# Altium schematic symbol library spacemonochrome-WR_TBL.SchLib: 1696 symbols (part 19 of 28)
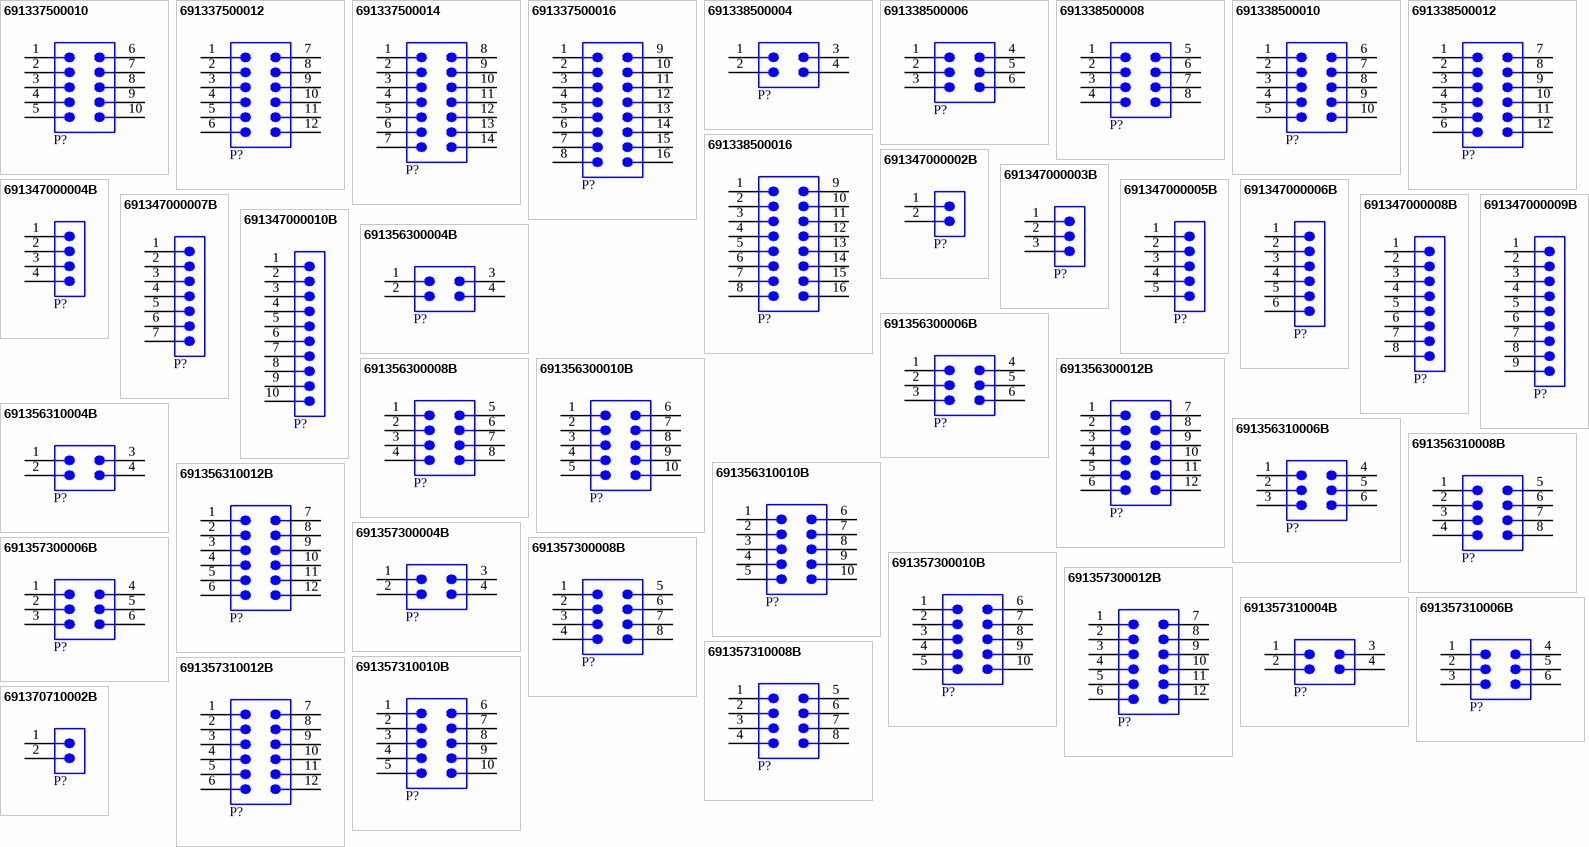
[diagram p60: symbols 691337500010 to 691370710002B]

## 691357310006B
designator P?  (value not drawn)
WR-TBL Series 357B Double Level Horizontal PCB Header with Flanges, THT, pitch 3.81mm, 6p; Manufacturer: Wurth Elektronik; Modularity: No; Rated Current: 10A; Working Voltage: 300V; ComponentLink1Description: Website Link; ComponentLink1URL: https://www.we-online.com/redexpert/article/691357310006B?ad; ComponentLink2Description: Datasheet Link; ComponentLink2URL: https://www.we-online.com/redexpert/spec/691357310006B?ad; Manufacturer Part Number: 691357310006B; Category: Terminal Blocks; Match Code: WR-TBL; Mount: Through Hole; Operating Temperature Max: 105°C; Operating Temperature Min: -40°C; Packaging: Box; Application: Pluggable; Number of Pins: 6; Number of Rows: 2; Orientation: Double Level Horizontal; Pitch: 3.81mm
footprint 691357310006B
pins: 1, 2, 3, 4, 5, 6

## 691357310008B
designator P?  (value not drawn)
WR-TBL Series 357B Double Level Horizontal PCB Header with Flanges, THT, pitch 3.81mm, 8p; Manufacturer: Wurth Elektronik; Modularity: No; Rated Current: 10A; Working Voltage: 300V; ComponentLink1Description: Website Link; ComponentLink1URL: https://www.we-online.com/redexpert/article/691357310008B?ad; ComponentLink2Description: Datasheet Link; ComponentLink2URL: https://www.we-online.com/redexpert/spec/691357310008B?ad; Manufacturer Part Number: 691357310008B; Category: Terminal Blocks; Match Code: WR-TBL; Mount: Through Hole; Operating Temperature Max: 105°C; Operating Temperature Min: -40°C; Packaging: Box; Application: Pluggable; Number of Pins: 8; Number of Rows: 2; Orientation: Double Level Horizontal; Pitch: 3.81mm
footprint 691357310008B
pins: 1, 2, 3, 4, 5, 6, 7, 8

## 691357310010B
designator P?  (value not drawn)
WR-TBL Series 357B Double Level Horizontal PCB Header with Flanges, THT, pitch 3.81mm, 10p; Manufacturer: Wurth Elektronik; Modularity: No; Rated Current: 10A; Working Voltage: 300V; ComponentLink1Description: Website Link; ComponentLink1URL: https://www.we-online.com/redexpert/article/691357310010B?ad; ComponentLink2Description: Datasheet Link; ComponentLink2URL: https://www.we-online.com/redexpert/spec/691357310010B?ad; Manufacturer Part Number: 691357310010B; Category: Terminal Blocks; Match Code: WR-TBL; Mount: Through Hole; Operating Temperature Max: 105°C; Operating Temperature Min: -40°C; Packaging: Box; Application: Pluggable; Number of Pins: 10; Number of Rows: 2; Orientation: Double Level Horizontal; Pitch: 3.81mm
footprint 691357310010B
pins: 1, 2, 3, 4, 5, 6, 7, 8, 9, 10

## 691357310012B
designator P?  (value not drawn)
WR-TBL Series 357B Double Level Horizontal PCB Header with Flanges, THT, pitch 3.81mm, 12p; Manufacturer: Wurth Elektronik; Modularity: No; Rated Current: 10A; Working Voltage: 300V; ComponentLink1Description: Website Link; ComponentLink1URL: https://www.we-online.com/redexpert/article/691357310012B?ad; ComponentLink2Description: Datasheet Link; ComponentLink2URL: https://www.we-online.com/redexpert/spec/691357310012B?ad; Manufacturer Part Number: 691357310012B; Category: Terminal Blocks; Match Code: WR-TBL; Mount: Through Hole; Operating Temperature Max: 105°C; Operating Temperature Min: -40°C; Packaging: Box; Application: Pluggable; Number of Pins: 12; Number of Rows: 2; Orientation: Double Level Horizontal; Pitch: 3.81mm
footprint 691357310012B
pins: 1, 2, 3, 4, 5, 6, 7, 8, 9, 10, 11, 12

## 691370710002B
designator P?  (value not drawn)
WR-TBL Series 370B Horizontal PCB Header, THT, pitch 5mm, 2p; Manufacturer: Wurth Elektronik; Modularity: No; Rated Current: 16A; Working Voltage: 300V; ComponentLink1Description: Website Link; ComponentLink1URL: https://www.we-online.com/redexpert/article/691370710002B?ad; ComponentLink2Description: Datasheet Link; ComponentLink2URL: https://www.we-online.com/redexpert/spec/691370710002B?ad; Manufacturer Part Number: 691370710002B; Category: Terminal Blocks; Match Code: WR-TBL; Mount: Through Hole; Operating Temperature Max: 105°C; Operating Temperature Min: -40°C; Packaging: Box; Application: Pluggable; Number of Pins: 2; Number of Rows: 1; Orientation: Horizontal; Pitch: 5mm
footprint 691370710002B
pins: 1, 2

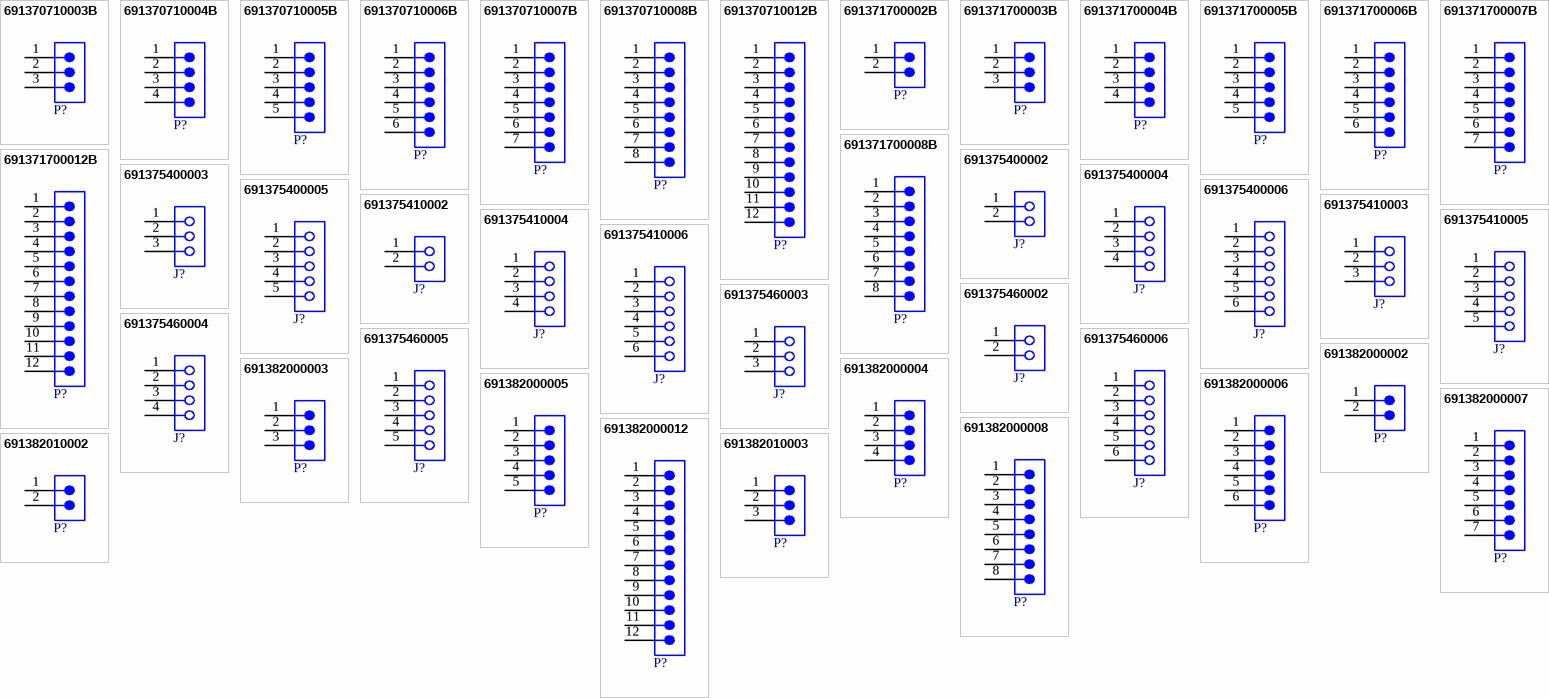
[diagram p28: symbols 691370710003B to 691382010003]

## 691370710003B
designator P?  (value not drawn)
WR-TBL Series 370B Horizontal PCB Header, THT, pitch 5mm, 3p; Manufacturer: Wurth Elektronik; Modularity: No; Rated Current: 16A; Working Voltage: 300V; ComponentLink1Description: Website Link; ComponentLink1URL: https://www.we-online.com/redexpert/article/691370710003B?ad; ComponentLink2Description: Datasheet Link; ComponentLink2URL: https://www.we-online.com/redexpert/spec/691370710003B?ad; Manufacturer Part Number: 691370710003B; Category: Terminal Blocks; Match Code: WR-TBL; Mount: Through Hole; Operating Temperature Max: 105°C; Operating Temperature Min: -40°C; Packaging: Box; Application: Pluggable; Number of Pins: 3; Number of Rows: 1; Orientation: Horizontal; Pitch: 5mm
footprint 691370710003B
pins: 1, 2, 3

## 691370710004B
designator P?  (value not drawn)
WR-TBL Series 370B Horizontal PCB Header, THT, pitch 5mm, 4p; Manufacturer: Wurth Elektronik; Modularity: No; Rated Current: 16A; Working Voltage: 300V; ComponentLink1Description: Website Link; ComponentLink1URL: https://www.we-online.com/redexpert/article/691370710004B?ad; ComponentLink2Description: Datasheet Link; ComponentLink2URL: https://www.we-online.com/redexpert/spec/691370710004B?ad; Manufacturer Part Number: 691370710004B; Category: Terminal Blocks; Match Code: WR-TBL; Mount: Through Hole; Operating Temperature Max: 105°C; Operating Temperature Min: -40°C; Packaging: Box; Application: Pluggable; Number of Pins: 4; Number of Rows: 1; Orientation: Horizontal; Pitch: 5mm
footprint 691370710004B
pins: 1, 2, 3, 4

## 691370710005B
designator P?  (value not drawn)
WR-TBL Series 370B Horizontal PCB Header, THT, pitch 5mm, 5p; Manufacturer: Wurth Elektronik; Modularity: No; Rated Current: 16A; Working Voltage: 300V; ComponentLink1Description: Website Link; ComponentLink1URL: https://www.we-online.com/redexpert/article/691370710005B?ad; ComponentLink2Description: Datasheet Link; ComponentLink2URL: https://www.we-online.com/redexpert/spec/691370710005B?ad; Manufacturer Part Number: 691370710005B; Category: Terminal Blocks; Match Code: WR-TBL; Mount: Through Hole; Operating Temperature Max: 105°C; Operating Temperature Min: -40°C; Packaging: Box; Application: Pluggable; Number of Pins: 5; Number of Rows: 1; Orientation: Horizontal; Pitch: 5mm
footprint 691370710005B
pins: 1, 2, 3, 4, 5

## 691370710006B
designator P?  (value not drawn)
WR-TBL Series 370B Horizontal PCB Header, THT, pitch 5mm, 6p; Manufacturer: Wurth Elektronik; Modularity: No; Rated Current: 16A; Working Voltage: 300V; ComponentLink1Description: Website Link; ComponentLink1URL: https://www.we-online.com/redexpert/article/691370710006B?ad; ComponentLink2Description: Datasheet Link; ComponentLink2URL: https://www.we-online.com/redexpert/spec/691370710006B?ad; Manufacturer Part Number: 691370710006B; Category: Terminal Blocks; Match Code: WR-TBL; Mount: Through Hole; Operating Temperature Max: 105°C; Operating Temperature Min: -40°C; Packaging: Box; Application: Pluggable; Number of Pins: 6; Number of Rows: 1; Orientation: Horizontal; Pitch: 5mm
footprint 691370710006B
pins: 1, 2, 3, 4, 5, 6

## 691370710007B
designator P?  (value not drawn)
WR-TBL Series 370B Horizontal PCB Header, THT, pitch 5mm, 7p; Manufacturer: Wurth Elektronik; Modularity: No; Rated Current: 16A; Working Voltage: 300V; ComponentLink1Description: Website Link; ComponentLink1URL: https://www.we-online.com/redexpert/article/691370710007B?ad; ComponentLink2Description: Datasheet Link; ComponentLink2URL: https://www.we-online.com/redexpert/spec/691370710007B?ad; Manufacturer Part Number: 691370710007B; Category: Terminal Blocks; Match Code: WR-TBL; Mount: Through Hole; Operating Temperature Max: 105°C; Operating Temperature Min: -40°C; Packaging: Box; Application: Pluggable; Number of Pins: 7; Number of Rows: 1; Orientation: Horizontal; Pitch: 5mm
footprint 691370710007B
pins: 1, 2, 3, 4, 5, 6, 7

## 691370710008B
designator P?  (value not drawn)
WR-TBL Series 370B Horizontal PCB Header, THT, pitch 5mm, 8p; Manufacturer: Wurth Elektronik; Modularity: No; Rated Current: 16A; Working Voltage: 300V; ComponentLink1Description: Website Link; ComponentLink1URL: https://www.we-online.com/redexpert/article/691370710008B?ad; ComponentLink2Description: Datasheet Link; ComponentLink2URL: https://www.we-online.com/redexpert/spec/691370710008B?ad; Manufacturer Part Number: 691370710008B; Category: Terminal Blocks; Match Code: WR-TBL; Mount: Through Hole; Operating Temperature Max: 105°C; Operating Temperature Min: -40°C; Packaging: Box; Application: Pluggable; Number of Pins: 8; Number of Rows: 1; Orientation: Horizontal; Pitch: 5mm
footprint 691370710008B
pins: 1, 2, 3, 4, 5, 6, 7, 8

## 691370710012B
designator P?  (value not drawn)
WR-TBL Series 370B Horizontal PCB Header, THT, pitch 5mm, 12p; Manufacturer: Wurth Elektronik; Modularity: No; Rated Current: 16A; Working Voltage: 300V; ComponentLink1Description: Website Link; ComponentLink1URL: https://www.we-online.com/redexpert/article/691370710012B?ad; ComponentLink2Description: Datasheet Link; ComponentLink2URL: https://www.we-online.com/redexpert/spec/691370710012B?ad; Manufacturer Part Number: 691370710012B; Category: Terminal Blocks; Match Code: WR-TBL; Mount: Through Hole; Operating Temperature Max: 105°C; Operating Temperature Min: -40°C; Packaging: Box; Application: Pluggable; Number of Pins: 12; Number of Rows: 1; Orientation: Horizontal; Pitch: 5mm
footprint 691370710012B
pins: 1, 2, 3, 4, 5, 6, 7, 8, 9, 10, 11, 12

## 691371700002B
designator P?  (value not drawn)
WR-TBL Series 371B Vertical PCB Header, THT, pitch 5mm, 2p; Manufacturer: Wurth Elektronik; Modularity: No; Rated Current: 16A; Working Voltage: 300V; ComponentLink1Description: Website Link; ComponentLink1URL: https://www.we-online.com/redexpert/article/691371700002B?ad; ComponentLink2Description: Datasheet Link; ComponentLink2URL: https://www.we-online.com/redexpert/spec/691371700002B?ad; Manufacturer Part Number: 691371700002B; Category: Terminal Blocks; Match Code: WR-TBL; Mount: Through Hole; Operating Temperature Max: 105°C; Operating Temperature Min: -40°C; Packaging: Box; Application: Pluggable; Number of Pins: 2; Number of Rows: 1; Orientation: Vertical; Pitch: 5mm
footprint 691371700002B
pins: 1, 2

## 691371700003B
designator P?  (value not drawn)
WR-TBL Series 371B Vertical PCB Header, THT, pitch 5mm, 3p; Manufacturer: Wurth Elektronik; Modularity: No; Rated Current: 16A; Working Voltage: 300V; ComponentLink1Description: Website Link; ComponentLink1URL: https://www.we-online.com/redexpert/article/691371700003B?ad; ComponentLink2Description: Datasheet Link; ComponentLink2URL: https://www.we-online.com/redexpert/spec/691371700003B?ad; Manufacturer Part Number: 691371700003B; Category: Terminal Blocks; Match Code: WR-TBL; Mount: Through Hole; Operating Temperature Max: 105°C; Operating Temperature Min: -40°C; Packaging: Box; Application: Pluggable; Number of Pins: 3; Number of Rows: 1; Orientation: Vertical; Pitch: 5mm
footprint 691371700003B
pins: 1, 2, 3

## 691371700004B
designator P?  (value not drawn)
WR-TBL Series 371B Vertical PCB Header, THT, pitch 5mm, 4p; Manufacturer: Wurth Elektronik; Modularity: No; Rated Current: 16A; Working Voltage: 300V; ComponentLink1Description: Website Link; ComponentLink1URL: https://www.we-online.com/redexpert/article/691371700004B?ad; ComponentLink2Description: Datasheet Link; ComponentLink2URL: https://www.we-online.com/redexpert/spec/691371700004B?ad; Manufacturer Part Number: 691371700004B; Category: Terminal Blocks; Match Code: WR-TBL; Mount: Through Hole; Operating Temperature Max: 105°C; Operating Temperature Min: -40°C; Packaging: Box; Application: Pluggable; Number of Pins: 4; Number of Rows: 1; Orientation: Vertical; Pitch: 5mm
footprint 691371700004B
pins: 1, 2, 3, 4

## 691371700005B
designator P?  (value not drawn)
WR-TBL Series 371B Vertical PCB Header, THT, pitch 5mm, 5p; Manufacturer: Wurth Elektronik; Modularity: No; Rated Current: 16A; Working Voltage: 300V; ComponentLink1Description: Website Link; ComponentLink1URL: https://www.we-online.com/redexpert/article/691371700005B?ad; ComponentLink2Description: Datasheet Link; ComponentLink2URL: https://www.we-online.com/redexpert/spec/691371700005B?ad; Manufacturer Part Number: 691371700005B; Category: Terminal Blocks; Match Code: WR-TBL; Mount: Through Hole; Operating Temperature Max: 105°C; Operating Temperature Min: -40°C; Packaging: Box; Application: Pluggable; Number of Pins: 5; Number of Rows: 1; Orientation: Vertical; Pitch: 5mm
footprint 691371700005B
pins: 1, 2, 3, 4, 5

## 691371700006B
designator P?  (value not drawn)
WR-TBL Series 371B Vertical PCB Header, THT, pitch 5mm, 6p; Manufacturer: Wurth Elektronik; Modularity: No; Rated Current: 16A; Working Voltage: 300V; ComponentLink1Description: Website Link; ComponentLink1URL: https://www.we-online.com/redexpert/article/691371700006B?ad; ComponentLink2Description: Datasheet Link; ComponentLink2URL: https://www.we-online.com/redexpert/spec/691371700006B?ad; Manufacturer Part Number: 691371700006B; Category: Terminal Blocks; Match Code: WR-TBL; Mount: Through Hole; Operating Temperature Max: 105°C; Operating Temperature Min: -40°C; Packaging: Box; Application: Pluggable; Number of Pins: 6; Number of Rows: 1; Orientation: Vertical; Pitch: 5mm
footprint 691371700006B
pins: 1, 2, 3, 4, 5, 6

## 691371700007B
designator P?  (value not drawn)
WR-TBL Series 371B Vertical PCB Header, THT, pitch 5mm, 7p; Manufacturer: Wurth Elektronik; Modularity: No; Rated Current: 16A; Working Voltage: 300V; ComponentLink1Description: Website Link; ComponentLink1URL: https://www.we-online.com/redexpert/article/691371700007B?ad; ComponentLink2Description: Datasheet Link; ComponentLink2URL: https://www.we-online.com/redexpert/spec/691371700007B?ad; Manufacturer Part Number: 691371700007B; Category: Terminal Blocks; Match Code: WR-TBL; Mount: Through Hole; Operating Temperature Max: 105°C; Operating Temperature Min: -40°C; Packaging: Box; Application: Pluggable; Number of Pins: 7; Number of Rows: 1; Orientation: Vertical; Pitch: 5mm
footprint 691371700007B
pins: 1, 2, 3, 4, 5, 6, 7

## 691371700008B
designator P?  (value not drawn)
WR-TBL Series 371B Vertical PCB Header, THT, pitch 5mm, 8p; Manufacturer: Wurth Elektronik; Modularity: No; Rated Current: 16A; Working Voltage: 300V; ComponentLink1Description: Website Link; ComponentLink1URL: https://www.we-online.com/redexpert/article/691371700008B?ad; ComponentLink2Description: Datasheet Link; ComponentLink2URL: https://www.we-online.com/redexpert/spec/691371700008B?ad; Manufacturer Part Number: 691371700008B; Category: Terminal Blocks; Match Code: WR-TBL; Mount: Through Hole; Operating Temperature Max: 105°C; Operating Temperature Min: -40°C; Packaging: Box; Application: Pluggable; Number of Pins: 8; Number of Rows: 1; Orientation: Vertical; Pitch: 5mm
footprint 691371700008B
pins: 1, 2, 3, 4, 5, 6, 7, 8

## 691371700012B
designator P?  (value not drawn)
WR-TBL Series 371B Vertical PCB Header, THT, pitch 5mm, 12p; Manufacturer: Wurth Elektronik; Modularity: No; Rated Current: 16A; Working Voltage: 300V; ComponentLink1Description: Website Link; ComponentLink1URL: https://www.we-online.com/redexpert/article/691371700012B?ad; ComponentLink2Description: Datasheet Link; ComponentLink2URL: https://www.we-online.com/redexpert/spec/691371700012B?ad; Manufacturer Part Number: 691371700012B; Category: Terminal Blocks; Match Code: WR-TBL; Mount: Through Hole; Operating Temperature Max: 105°C; Operating Temperature Min: -40°C; Packaging: Box; Application: Pluggable; Number of Pins: 12; Number of Rows: 1; Orientation: Vertical; Pitch: 5mm
footprint 691371700012B
pins: 1, 2, 3, 4, 5, 6, 7, 8, 9, 10, 11, 12

## 691375400002
designator J?  (value not drawn)
WR-TBL Series 3754 PCB Header Vertical cable entry, THT, pitch 7.62mm, 2p; Manufacturer: Wurth Elektronik; Modularity: No; Manufacturer Part Number: 691375400002; Category: Terminal Blocks; Match Code: WR-TBL; ComponentLink1Description: Website Link; ComponentLink1URL: https://www.we-online.com/redexpert/article/691375400002?ad; ComponentLink2Description: Datasheet Link; ComponentLink2URL: https://www.we-online.com/redexpert/spec/691375400002?ad; Mount: Through Hole; Operating Temperature Max: 160°C; Operating Temperature Min: -30°C; Packaging: Carton; Application: PCB Header; Number of Pins: 2; Number of Rows: 1; Orientation: Vertical Cable Entry; Pitch: 7.62mm
footprint 691375400002
pins: 1, 2

## 691375400003
designator J?  (value not drawn)
WR-TBL Series 3754 PCB Header Vertical cable entry, THT, pitch 7.62mm, 3p; Manufacturer: Wurth Elektronik; Modularity: No; Manufacturer Part Number: 691375400003; Category: Terminal Blocks; Match Code: WR-TBL; ComponentLink1Description: Website Link; ComponentLink1URL: https://www.we-online.com/redexpert/article/691375400003?ad; ComponentLink2Description: Datasheet Link; ComponentLink2URL: https://www.we-online.com/redexpert/spec/691375400003?ad; Mount: Through Hole; Operating Temperature Max: 160°C; Operating Temperature Min: -30°C; Packaging: Carton; Application: PCB Header; Number of Pins: 3; Number of Rows: 1; Orientation: Vertical Cable Entry; Pitch: 7.62mm
footprint 691375400003
pins: 1, 2, 3

## 691375400004
designator J?  (value not drawn)
WR-TBL Series 3754 PCB Header Vertical cable entry, THT, pitch 7.62mm, 4p; Manufacturer: Wurth Elektronik; Modularity: No; Manufacturer Part Number: 691375400004; Category: Terminal Blocks; Match Code: WR-TBL; ComponentLink1Description: Website Link; ComponentLink1URL: https://www.we-online.com/redexpert/article/691375400004?ad; ComponentLink2Description: Datasheet Link; ComponentLink2URL: https://www.we-online.com/redexpert/spec/691375400004?ad; Mount: Through Hole; Operating Temperature Max: 160°C; Operating Temperature Min: -30°C; Packaging: Carton; Application: PCB Header; Number of Pins: 4; Number of Rows: 1; Orientation: Vertical Cable Entry; Pitch: 7.62mm
footprint 691375400004
pins: 1, 2, 3, 4

## 691375400005
designator J?  (value not drawn)
WR-TBL Series 3754 PCB Header Vertical cable entry, THT, pitch 7.62mm, 5p; Manufacturer: Wurth Elektronik; Modularity: No; Manufacturer Part Number: 691375400005; Category: Terminal Blocks; Match Code: WR-TBL; ComponentLink1Description: Website Link; ComponentLink1URL: https://www.we-online.com/redexpert/article/691375400005?ad; ComponentLink2Description: Datasheet Link; ComponentLink2URL: https://www.we-online.com/redexpert/spec/691375400005?ad; Mount: Through Hole; Operating Temperature Max: 160°C; Operating Temperature Min: -30°C; Packaging: Carton; Application: PCB Header; Number of Pins: 5; Number of Rows: 1; Orientation: Vertical Cable Entry; Pitch: 7.62mm
footprint 691375400005
pins: 1, 2, 3, 4, 5

## 691375400006
designator J?  (value not drawn)
WR-TBL Series 3754 PCB Header Vertical cable entry, THT, pitch 7.62mm, 6p; Manufacturer: Wurth Elektronik; Modularity: No; Manufacturer Part Number: 691375400006; Category: Terminal Blocks; Match Code: WR-TBL; ComponentLink1Description: Website Link; ComponentLink1URL: https://www.we-online.com/redexpert/article/691375400006?ad; ComponentLink2Description: Datasheet Link; ComponentLink2URL: https://www.we-online.com/redexpert/spec/691375400006?ad; Mount: Through Hole; Operating Temperature Max: 160°C; Operating Temperature Min: -30°C; Packaging: Carton; Application: PCB Header; Number of Pins: 6; Number of Rows: 1; Orientation: Vertical Cable Entry; Pitch: 7.62mm
footprint 691375400006
pins: 1, 2, 3, 4, 5, 6

## 691375410002
designator J?  (value not drawn)
WR-TBL Series 3754 PCB Header Horizontal cable entry, THT, pitch 7.62mm, 2p; Manufacturer: Wurth Elektronik; Modularity: No; Manufacturer Part Number: 691375410002; Category: Terminal Blocks; Match Code: WR-TBL; ComponentLink1Description: Website Link; ComponentLink1URL: https://www.we-online.com/redexpert/article/691375410002?ad; ComponentLink2Description: Datasheet Link; ComponentLink2URL: https://www.we-online.com/redexpert/spec/691375410002?ad; Mount: Through Hole; Operating Temperature Max: 160°C; Operating Temperature Min: -30°C; Packaging: Carton; Application: PCB Header; Number of Pins: 2; Number of Rows: 1; Orientation: Horizontal Cable Entry; Pitch: 7.62mm
footprint 691375410002
pins: 1, 2

## 691375410003
designator J?  (value not drawn)
WR-TBL Series 3754 PCB Header Horizontal cable entry, THT, pitch 7.62mm, 3p; Manufacturer: Wurth Elektronik; Modularity: No; Manufacturer Part Number: 691375410003; Category: Terminal Blocks; Match Code: WR-TBL; ComponentLink1Description: Website Link; ComponentLink1URL: https://www.we-online.com/redexpert/article/691375410003?ad; ComponentLink2Description: Datasheet Link; ComponentLink2URL: https://www.we-online.com/redexpert/spec/691375410003?ad; Mount: Through Hole; Operating Temperature Max: 160°C; Operating Temperature Min: -30°C; Packaging: Carton; Application: PCB Header; Number of Pins: 3; Number of Rows: 1; Orientation: Horizontal Cable Entry; Pitch: 7.62mm
footprint 691375410003
pins: 1, 2, 3

## 691375410004
designator J?  (value not drawn)
WR-TBL Series 3754 PCB Header Horizontal cable entry, THT, pitch 7.62mm, 4p; Manufacturer: Wurth Elektronik; Modularity: No; Manufacturer Part Number: 691375410004; Category: Terminal Blocks; Match Code: WR-TBL; ComponentLink1Description: Website Link; ComponentLink1URL: https://www.we-online.com/redexpert/article/691375410004?ad; ComponentLink2Description: Datasheet Link; ComponentLink2URL: https://www.we-online.com/redexpert/spec/691375410004?ad; Mount: Through Hole; Operating Temperature Max: 160°C; Operating Temperature Min: -30°C; Packaging: Carton; Application: PCB Header; Number of Pins: 4; Number of Rows: 1; Orientation: Horizontal Cable Entry; Pitch: 7.62mm
footprint 691375410004
pins: 1, 2, 3, 4

## 691375410005
designator J?  (value not drawn)
WR-TBL Series 3754 PCB Header Horizontal cable entry, THT, pitch 7.62mm, 5p; Manufacturer: Wurth Elektronik; Modularity: No; Manufacturer Part Number: 691375410005; Category: Terminal Blocks; Match Code: WR-TBL; ComponentLink1Description: Website Link; ComponentLink1URL: https://www.we-online.com/redexpert/article/691375410005?ad; ComponentLink2Description: Datasheet Link; ComponentLink2URL: https://www.we-online.com/redexpert/spec/691375410005?ad; Mount: Through Hole; Operating Temperature Max: 160°C; Operating Temperature Min: -30°C; Packaging: Carton; Application: PCB Header; Number of Pins: 5; Number of Rows: 1; Orientation: Horizontal Cable Entry; Pitch: 7.62mm
footprint 691375410005
pins: 1, 2, 3, 4, 5

## 691375410006
designator J?  (value not drawn)
WR-TBL Series 3754 PCB Header Horizontal cable entry, THT, pitch 7.62mm, 6p; Manufacturer: Wurth Elektronik; Modularity: No; Manufacturer Part Number: 691375410006; Category: Terminal Blocks; Match Code: WR-TBL; ComponentLink1Description: Website Link; ComponentLink1URL: https://www.we-online.com/redexpert/article/691375410006?ad; ComponentLink2Description: Datasheet Link; ComponentLink2URL: https://www.we-online.com/redexpert/spec/691375410006?ad; Mount: Through Hole; Operating Temperature Max: 160°C; Operating Temperature Min: -30°C; Packaging: Carton; Application: PCB Header; Number of Pins: 6; Number of Rows: 1; Orientation: Horizontal Cable Entry; Pitch: 7.62mm
footprint 691375410006
pins: 1, 2, 3, 4, 5, 6

## 691375460002
designator J?  (value not drawn)
WR-TBL Series 3754 PCB Header Upsidedown Horizontal cable entry, THT, pitch 7.62mm, 2p; Manufacturer: Wurth Elektronik; Modularity: No; Manufacturer Part Number: 691375460002; Category: Terminal Blocks; Match Code: WR-TBL; ComponentLink1Description: Website Link; ComponentLink1URL: https://www.we-online.com/redexpert/article/691375460002?ad; ComponentLink2Description: Datasheet Link; ComponentLink2URL: https://www.we-online.com/redexpert/spec/691375460002?ad; Mount: Through Hole; Operating Temperature Max: 160°C; Operating Temperature Min: -30°C; Packaging: Carton; Application: PCB Header; Number of Pins: 2; Number of Rows: 1; Orientation: Horizontal Cable Entry; Pitch: 7.62mm
footprint 691375460002
pins: 1, 2

## 691375460003
designator J?  (value not drawn)
WR-TBL Series 3754 PCB Header Upsidedown Horizontal cable entry, THT, pitch 7.62mm, 3p; Manufacturer: Wurth Elektronik; Modularity: No; Manufacturer Part Number: 691375460003; Category: Terminal Blocks; Match Code: WR-TBL; ComponentLink1Description: Website Link; ComponentLink1URL: https://www.we-online.com/redexpert/article/691375460003?ad; ComponentLink2Description: Datasheet Link; ComponentLink2URL: https://www.we-online.com/redexpert/spec/691375460003?ad; Mount: Through Hole; Operating Temperature Max: 160°C; Operating Temperature Min: -30°C; Packaging: Carton; Application: PCB Header; Number of Pins: 3; Number of Rows: 1; Orientation: Horizontal Cable Entry; Pitch: 7.62mm
footprint 691375460003
pins: 1, 2, 3

## 691375460004
designator J?  (value not drawn)
WR-TBL Series 3754 PCB Header Upsidedown Horizontal cable entry, THT, pitch 7.62mm, 4p; Manufacturer: Wurth Elektronik; Modularity: No; Manufacturer Part Number: 691375460004; Category: Terminal Blocks; Match Code: WR-TBL; ComponentLink1Description: Website Link; ComponentLink1URL: https://www.we-online.com/redexpert/article/691375460004?ad; ComponentLink2Description: Datasheet Link; ComponentLink2URL: https://www.we-online.com/redexpert/spec/691375460004?ad; Mount: Through Hole; Operating Temperature Max: 160°C; Operating Temperature Min: -30°C; Packaging: Carton; Application: PCB Header; Number of Pins: 4; Number of Rows: 1; Orientation: Horizontal Cable Entry; Pitch: 7.62mm
footprint 691375460004
pins: 1, 2, 3, 4

## 691375460005
designator J?  (value not drawn)
WR-TBL Series 3754 PCB Header Upsidedown Horizontal cable entry, THT, pitch 7.62mm, 5p; Manufacturer: Wurth Elektronik; Modularity: No; Manufacturer Part Number: 691375460005; Category: Terminal Blocks; Match Code: WR-TBL; ComponentLink1Description: Website Link; ComponentLink1URL: https://www.we-online.com/redexpert/article/691375460005?ad; ComponentLink2Description: Datasheet Link; ComponentLink2URL: https://www.we-online.com/redexpert/spec/691375460005?ad; Mount: Through Hole; Operating Temperature Max: 160°C; Operating Temperature Min: -30°C; Packaging: Carton; Application: PCB Header; Number of Pins: 5; Number of Rows: 1; Orientation: Horizontal Cable Entry; Pitch: 7.62mm
footprint 691375460005
pins: 1, 2, 3, 4, 5

## 691375460006
designator J?  (value not drawn)
WR-TBL Series 3754 PCB Header Upsidedown Horizontal cable entry, THT, pitch 7.62mm, 6p; Manufacturer: Wurth Elektronik; Modularity: No; Manufacturer Part Number: 691375460006; Category: Terminal Blocks; Match Code: WR-TBL; ComponentLink1Description: Website Link; ComponentLink1URL: https://www.we-online.com/redexpert/article/691375460006?ad; ComponentLink2Description: Datasheet Link; ComponentLink2URL: https://www.we-online.com/redexpert/spec/691375460006?ad; Mount: Through Hole; Operating Temperature Max: 160°C; Operating Temperature Min: -30°C; Packaging: Carton; Application: PCB Header; Number of Pins: 6; Number of Rows: 1; Orientation: Horizontal Cable Entry; Pitch: 7.62mm
footprint 691375460006
pins: 1, 2, 3, 4, 5, 6

## 691382000002
designator P?  (value not drawn)
WR-TBL Series 382 Vertical PCB Header, THT, pitch 2.5mm, 2p; Manufacturer: Wurth Elektronik; Modularity: No; Rated Current: 4A; Working Voltage: 160V; ComponentLink1Description: Website Link; ComponentLink1URL: https://www.we-online.com/redexpert/article/691382000002?ad; ComponentLink2Description: Datasheet Link; ComponentLink2URL: https://www.we-online.com/redexpert/spec/691382000002?ad; Manufacturer Part Number: 691382000002; Category: Terminal Blocks; Match Code: WR-TBL; Mount: Through Hole; Operating Temperature Max: 105°C; Operating Temperature Min: -40°C; Packaging: Box; Application: Pluggable; Number of Pins: 2; Number of Rows: 1; Orientation: Vertical; Pitch: 2.5mm
footprint 691382000002
pins: 1, 2

## 691382000003
designator P?  (value not drawn)
WR-TBL Series 382 Vertical PCB Header, THT, pitch 2.5mm, 3p; Manufacturer: Wurth Elektronik; Modularity: No; Rated Current: 4A; Working Voltage: 160V; ComponentLink1Description: Website Link; ComponentLink1URL: https://www.we-online.com/redexpert/article/691382000003?ad; ComponentLink2Description: Datasheet Link; ComponentLink2URL: https://www.we-online.com/redexpert/spec/691382000003?ad; Manufacturer Part Number: 691382000003; Category: Terminal Blocks; Match Code: WR-TBL; Mount: Through Hole; Operating Temperature Max: 105°C; Operating Temperature Min: -40°C; Packaging: Box; Application: Pluggable; Number of Pins: 3; Number of Rows: 1; Orientation: Vertical; Pitch: 2.5mm
footprint 691382000003
pins: 1, 2, 3

## 691382000004
designator P?  (value not drawn)
WR-TBL Series 382 Vertical PCB Header, THT, pitch 2.5mm, 4p; Manufacturer: Wurth Elektronik; Modularity: No; Rated Current: 4A; Working Voltage: 160V; ComponentLink1Description: Website Link; ComponentLink1URL: https://www.we-online.com/redexpert/article/691382000004?ad; ComponentLink2Description: Datasheet Link; ComponentLink2URL: https://www.we-online.com/redexpert/spec/691382000004?ad; Manufacturer Part Number: 691382000004; Category: Terminal Blocks; Match Code: WR-TBL; Mount: Through Hole; Operating Temperature Max: 105°C; Operating Temperature Min: -40°C; Packaging: Box; Application: Pluggable; Number of Pins: 4; Number of Rows: 1; Orientation: Vertical; Pitch: 2.5mm
footprint 691382000004
pins: 1, 2, 3, 4

## 691382000005
designator P?  (value not drawn)
WR-TBL Series 382 Vertical PCB Header, THT, pitch 2.5mm, 5p; Manufacturer: Wurth Elektronik; Modularity: No; Rated Current: 4A; Working Voltage: 160V; ComponentLink1Description: Website Link; ComponentLink1URL: https://www.we-online.com/redexpert/article/691382000005?ad; ComponentLink2Description: Datasheet Link; ComponentLink2URL: https://www.we-online.com/redexpert/spec/691382000005?ad; Manufacturer Part Number: 691382000005; Category: Terminal Blocks; Match Code: WR-TBL; Mount: Through Hole; Operating Temperature Max: 105°C; Operating Temperature Min: -40°C; Packaging: Box; Application: Pluggable; Number of Pins: 5; Number of Rows: 1; Orientation: Vertical; Pitch: 2.5mm
footprint 691382000005
pins: 1, 2, 3, 4, 5

## 691382000006
designator P?  (value not drawn)
WR-TBL Series 382 Vertical PCB Header, THT, pitch 2.5mm, 6p; Manufacturer: Wurth Elektronik; Modularity: No; Rated Current: 4A; Working Voltage: 160V; ComponentLink1Description: Website Link; ComponentLink1URL: https://www.we-online.com/redexpert/article/691382000006?ad; ComponentLink2Description: Datasheet Link; ComponentLink2URL: https://www.we-online.com/redexpert/spec/691382000006?ad; Manufacturer Part Number: 691382000006; Category: Terminal Blocks; Match Code: WR-TBL; Mount: Through Hole; Operating Temperature Max: 105°C; Operating Temperature Min: -40°C; Packaging: Box; Application: Pluggable; Number of Pins: 6; Number of Rows: 1; Orientation: Vertical; Pitch: 2.5mm
footprint 691382000006
pins: 1, 2, 3, 4, 5, 6

## 691382000007
designator P?  (value not drawn)
WR-TBL Series 382 Vertical PCB Header, THT, pitch 2.5mm, 7p; Manufacturer: Wurth Elektronik; Modularity: No; Rated Current: 4A; Working Voltage: 160V; ComponentLink1Description: Website Link; ComponentLink1URL: https://www.we-online.com/redexpert/article/691382000007?ad; ComponentLink2Description: Datasheet Link; ComponentLink2URL: https://www.we-online.com/redexpert/spec/691382000007?ad; Manufacturer Part Number: 691382000007; Category: Terminal Blocks; Match Code: WR-TBL; Mount: Through Hole; Operating Temperature Max: 105°C; Operating Temperature Min: -40°C; Packaging: Box; Application: Pluggable; Number of Pins: 7; Number of Rows: 1; Orientation: Vertical; Pitch: 2.5mm
footprint 691382000007
pins: 1, 2, 3, 4, 5, 6, 7

## 691382000008
designator P?  (value not drawn)
WR-TBL Series 382 Vertical PCB Header, THT, pitch 2.5mm, 8p; Manufacturer: Wurth Elektronik; Modularity: No; Rated Current: 4A; Working Voltage: 160V; ComponentLink1Description: Website Link; ComponentLink1URL: https://www.we-online.com/redexpert/article/691382000008?ad; ComponentLink2Description: Datasheet Link; ComponentLink2URL: https://www.we-online.com/redexpert/spec/691382000008?ad; Manufacturer Part Number: 691382000008; Category: Terminal Blocks; Match Code: WR-TBL; Mount: Through Hole; Operating Temperature Max: 105°C; Operating Temperature Min: -40°C; Packaging: Box; Application: Pluggable; Number of Pins: 8; Number of Rows: 1; Orientation: Vertical; Pitch: 2.5mm
footprint 691382000008
pins: 1, 2, 3, 4, 5, 6, 7, 8

## 691382000012
designator P?  (value not drawn)
WR-TBL Series 382 Vertical PCB Header, THT, pitch 2.5mm, 12p; Manufacturer: Wurth Elektronik; Modularity: No; Rated Current: 4A; Working Voltage: 160V; ComponentLink1Description: Website Link; ComponentLink1URL: https://www.we-online.com/redexpert/article/691382000012?ad; ComponentLink2Description: Datasheet Link; ComponentLink2URL: https://www.we-online.com/redexpert/spec/691382000012?ad; Manufacturer Part Number: 691382000012; Category: Terminal Blocks; Match Code: WR-TBL; Mount: Through Hole; Operating Temperature Max: 105°C; Operating Temperature Min: -40°C; Packaging: Box; Application: Pluggable; Number of Pins: 12; Number of Rows: 1; Orientation: Vertical; Pitch: 2.5mm
footprint 691382000012
pins: 1, 2, 3, 4, 5, 6, 7, 8, 9, 10, 11, 12

## 691382010002
designator P?  (value not drawn)
WR-TBL Series 382 Horizontal PCB Header, THT, pitch 2.5mm, 2p; Manufacturer: Wurth Elektronik; Modularity: No; Rated Current: 4A; Working Voltage: 160V; ComponentLink1Description: Website Link; ComponentLink1URL: https://www.we-online.com/redexpert/article/691382010002?ad; ComponentLink2Description: Datasheet Link; ComponentLink2URL: https://www.we-online.com/redexpert/spec/691382010002?ad; Manufacturer Part Number: 691382010002; Category: Terminal Blocks; Match Code: WR-TBL; Mount: Through Hole; Operating Temperature Max: 105°C; Operating Temperature Min: -40°C; Packaging: Box; Application: Pluggable; Number of Pins: 2; Number of Rows: 1; Orientation: Horizontal; Pitch: 2.5mm
footprint 691382010002
pins: 1, 2

## 691382010003
designator P?  (value not drawn)
WR-TBL Series 382 Horizontal PCB Header, THT, pitch 2.5mm, 3p; Manufacturer: Wurth Elektronik; Modularity: No; Rated Current: 4A; Working Voltage: 160V; ComponentLink1Description: Website Link; ComponentLink1URL: https://www.we-online.com/redexpert/article/691382010003?ad; ComponentLink2Description: Datasheet Link; ComponentLink2URL: https://www.we-online.com/redexpert/spec/691382010003?ad; Manufacturer Part Number: 691382010003; Category: Terminal Blocks; Match Code: WR-TBL; Mount: Through Hole; Operating Temperature Max: 105°C; Operating Temperature Min: -40°C; Packaging: Box; Application: Pluggable; Number of Pins: 3; Number of Rows: 1; Orientation: Horizontal; Pitch: 2.5mm
footprint 691382010003
pins: 1, 2, 3

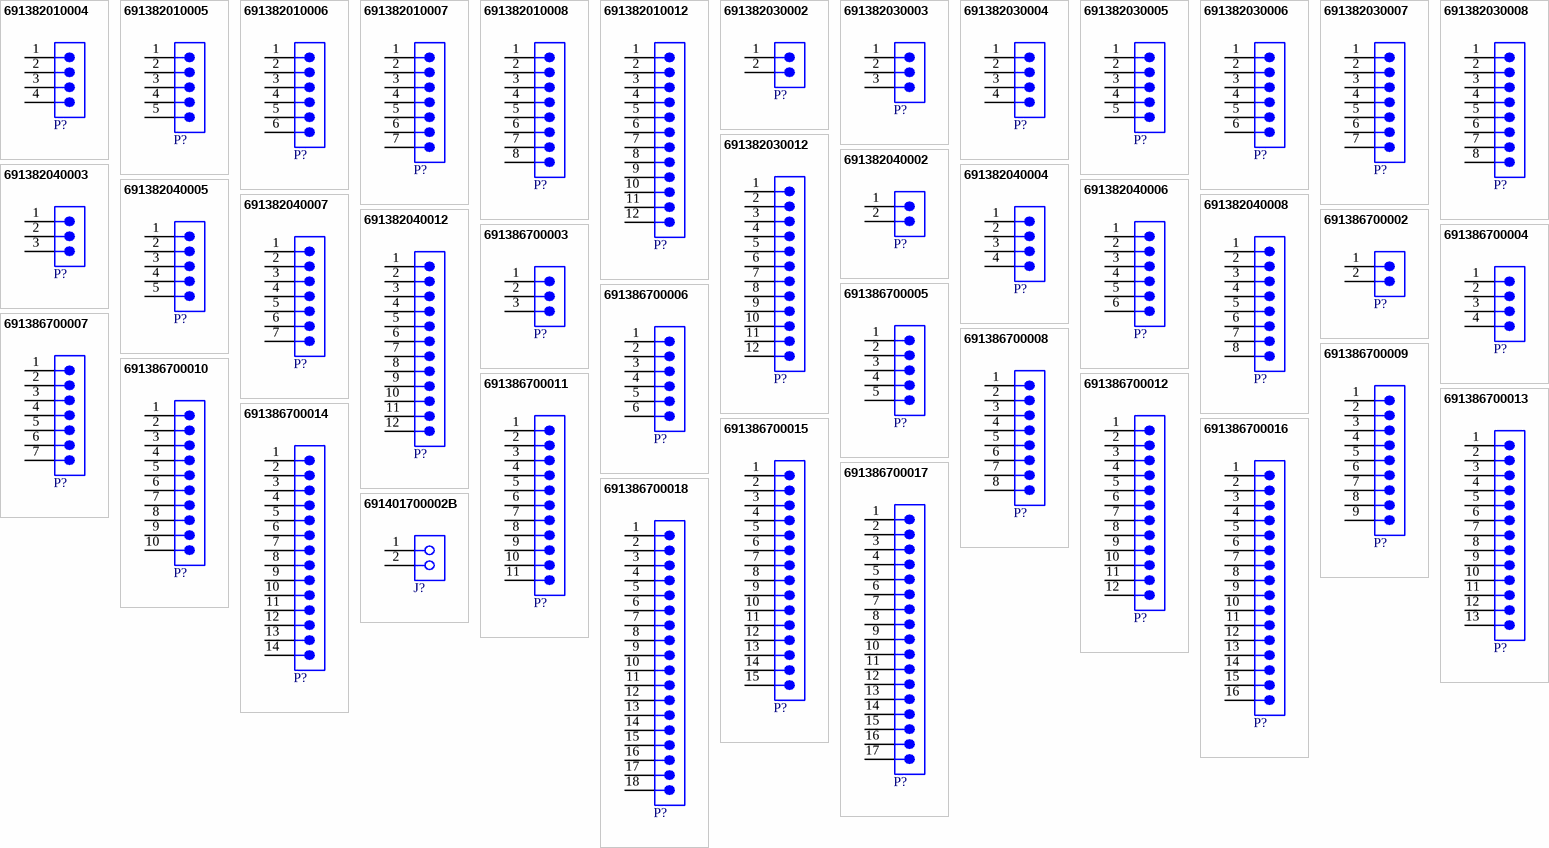
[diagram p29: symbols 691382010004 to 691401700002B]

## 691382010004
designator P?  (value not drawn)
WR-TBL Series 382 Horizontal PCB Header, THT, pitch 2.5mm, 4p; Manufacturer: Wurth Elektronik; Modularity: No; Rated Current: 4A; Working Voltage: 160V; ComponentLink1Description: Website Link; ComponentLink1URL: https://www.we-online.com/redexpert/article/691382010004?ad; ComponentLink2Description: Datasheet Link; ComponentLink2URL: https://www.we-online.com/redexpert/spec/691382010004?ad; Manufacturer Part Number: 691382010004; Category: Terminal Blocks; Match Code: WR-TBL; Mount: Through Hole; Operating Temperature Max: 105°C; Operating Temperature Min: -40°C; Packaging: Box; Application: Pluggable; Number of Pins: 4; Number of Rows: 1; Orientation: Horizontal; Pitch: 2.5mm
footprint 691382010004
pins: 1, 2, 3, 4

## 691382010005
designator P?  (value not drawn)
WR-TBL Series 382 Horizontal PCB Header, THT, pitch 2.5mm, 5p; Manufacturer: Wurth Elektronik; Modularity: No; Rated Current: 4A; Working Voltage: 160V; ComponentLink1Description: Website Link; ComponentLink1URL: https://www.we-online.com/redexpert/article/691382010005?ad; ComponentLink2Description: Datasheet Link; ComponentLink2URL: https://www.we-online.com/redexpert/spec/691382010005?ad; Manufacturer Part Number: 691382010005; Category: Terminal Blocks; Match Code: WR-TBL; Mount: Through Hole; Operating Temperature Max: 105°C; Operating Temperature Min: -40°C; Packaging: Box; Application: Pluggable; Number of Pins: 5; Number of Rows: 1; Orientation: Horizontal; Pitch: 2.5mm
footprint 691382010005
pins: 1, 2, 3, 4, 5

## 691382010006
designator P?  (value not drawn)
WR-TBL Series 382 Horizontal PCB Header, THT, pitch 2.5mm, 6p; Manufacturer: Wurth Elektronik; Modularity: No; Rated Current: 4A; Working Voltage: 160V; ComponentLink1Description: Website Link; ComponentLink1URL: https://www.we-online.com/redexpert/article/691382010006?ad; ComponentLink2Description: Datasheet Link; ComponentLink2URL: https://www.we-online.com/redexpert/spec/691382010006?ad; Manufacturer Part Number: 691382010006; Category: Terminal Blocks; Match Code: WR-TBL; Mount: Through Hole; Operating Temperature Max: 105°C; Operating Temperature Min: -40°C; Packaging: Box; Application: Pluggable; Number of Pins: 6; Number of Rows: 1; Orientation: Horizontal; Pitch: 2.5mm
footprint 691382010006
pins: 1, 2, 3, 4, 5, 6

## 691382010007
designator P?  (value not drawn)
WR-TBL Series 382 Horizontal PCB Header, THT, pitch 2.5mm, 7p; Manufacturer: Wurth Elektronik; Modularity: No; Rated Current: 4A; Working Voltage: 160V; ComponentLink1Description: Website Link; ComponentLink1URL: https://www.we-online.com/redexpert/article/691382010007?ad; ComponentLink2Description: Datasheet Link; ComponentLink2URL: https://www.we-online.com/redexpert/spec/691382010007?ad; Manufacturer Part Number: 691382010007; Category: Terminal Blocks; Match Code: WR-TBL; Mount: Through Hole; Operating Temperature Max: 105°C; Operating Temperature Min: -40°C; Packaging: Box; Application: Pluggable; Number of Pins: 7; Number of Rows: 1; Orientation: Horizontal; Pitch: 2.5mm
footprint 691382010007
pins: 1, 2, 3, 4, 5, 6, 7

## 691382010008
designator P?  (value not drawn)
WR-TBL Series 382 Horizontal PCB Header, THT, pitch 2.5mm, 8p; Manufacturer: Wurth Elektronik; Modularity: No; Rated Current: 4A; Working Voltage: 160V; ComponentLink1Description: Website Link; ComponentLink1URL: https://www.we-online.com/redexpert/article/691382010008?ad; ComponentLink2Description: Datasheet Link; ComponentLink2URL: https://www.we-online.com/redexpert/spec/691382010008?ad; Manufacturer Part Number: 691382010008; Category: Terminal Blocks; Match Code: WR-TBL; Mount: Through Hole; Operating Temperature Max: 105°C; Operating Temperature Min: -40°C; Packaging: Box; Application: Pluggable; Number of Pins: 8; Number of Rows: 1; Orientation: Horizontal; Pitch: 2.5mm
footprint 691382010008
pins: 1, 2, 3, 4, 5, 6, 7, 8

## 691382010012
designator P?  (value not drawn)
WR-TBL Series 382 Horizontal PCB Header, THT, pitch 2.5mm, 12p; Manufacturer: Wurth Elektronik; Modularity: No; Rated Current: 4A; Working Voltage: 160V; ComponentLink1Description: Website Link; ComponentLink1URL: https://www.we-online.com/redexpert/article/691382010012?ad; ComponentLink2Description: Datasheet Link; ComponentLink2URL: https://www.we-online.com/redexpert/spec/691382010012?ad; Manufacturer Part Number: 691382010012; Category: Terminal Blocks; Match Code: WR-TBL; Mount: Through Hole; Operating Temperature Max: 105°C; Operating Temperature Min: -40°C; Packaging: Box; Application: Pluggable; Number of Pins: 12; Number of Rows: 1; Orientation: Horizontal; Pitch: 2.5mm
footprint 691382010012
pins: 1, 2, 3, 4, 5, 6, 7, 8, 9, 10, 11, 12

## 691382030002
designator P?  (value not drawn)
WR-TBL Series 382 Vertical PCB Header with Flanges, THT, pitch 2.5mm, 2p; Manufacturer: Wurth Elektronik; Modularity: No; Rated Current: 4A; Working Voltage: 160V; ComponentLink1Description: Website Link; ComponentLink1URL: https://www.we-online.com/redexpert/article/691382030002?ad; ComponentLink2Description: Datasheet Link; ComponentLink2URL: https://www.we-online.com/redexpert/spec/691382030002?ad; Manufacturer Part Number: 691382030002; Category: Terminal Blocks; Match Code: WR-TBL; Mount: Through Hole; Operating Temperature Max: 105°C; Operating Temperature Min: -40°C; Packaging: Box; Application: Pluggable; Number of Pins: 2; Number of Rows: 1; Orientation: Vertical; Pitch: 2.5mm
footprint 691382030002
pins: 1, 2

## 691382030003
designator P?  (value not drawn)
WR-TBL Series 382 Vertical PCB Header with Flanges, THT, pitch 2.5mm, 3p; Manufacturer: Wurth Elektronik; Modularity: No; Rated Current: 4A; Working Voltage: 160V; ComponentLink1Description: Website Link; ComponentLink1URL: https://www.we-online.com/redexpert/article/691382030003?ad; ComponentLink2Description: Datasheet Link; ComponentLink2URL: https://www.we-online.com/redexpert/spec/691382030003?ad; Manufacturer Part Number: 691382030003; Category: Terminal Blocks; Match Code: WR-TBL; Mount: Through Hole; Operating Temperature Max: 105°C; Operating Temperature Min: -40°C; Packaging: Box; Application: Pluggable; Number of Pins: 3; Number of Rows: 1; Orientation: Vertical; Pitch: 2.5mm
footprint 691382030003
pins: 1, 2, 3

## 691382030004
designator P?  (value not drawn)
WR-TBL Series 382 Vertical PCB Header with Flanges, THT, pitch 2.5mm, 4p; Manufacturer: Wurth Elektronik; Modularity: No; Rated Current: 4A; Working Voltage: 160V; ComponentLink1Description: Website Link; ComponentLink1URL: https://www.we-online.com/redexpert/article/691382030004?ad; ComponentLink2Description: Datasheet Link; ComponentLink2URL: https://www.we-online.com/redexpert/spec/691382030004?ad; Manufacturer Part Number: 691382030004; Category: Terminal Blocks; Match Code: WR-TBL; Mount: Through Hole; Operating Temperature Max: 105°C; Operating Temperature Min: -40°C; Packaging: Box; Application: Pluggable; Number of Pins: 4; Number of Rows: 1; Orientation: Vertical; Pitch: 2.5mm
footprint 691382030004
pins: 1, 2, 3, 4

## 691382030005
designator P?  (value not drawn)
WR-TBL Series 382 Vertical PCB Header with Flanges, THT, pitch 2.5mm, 5p; Manufacturer: Wurth Elektronik; Modularity: No; Rated Current: 4A; Working Voltage: 160V; ComponentLink1Description: Website Link; ComponentLink1URL: https://www.we-online.com/redexpert/article/691382030005?ad; ComponentLink2Description: Datasheet Link; ComponentLink2URL: https://www.we-online.com/redexpert/spec/691382030005?ad; Manufacturer Part Number: 691382030005; Category: Terminal Blocks; Match Code: WR-TBL; Mount: Through Hole; Operating Temperature Max: 105°C; Operating Temperature Min: -40°C; Packaging: Box; Application: Pluggable; Number of Pins: 5; Number of Rows: 1; Orientation: Vertical; Pitch: 2.5mm
footprint 691382030005
pins: 1, 2, 3, 4, 5

## 691382030006
designator P?  (value not drawn)
WR-TBL Series 382 Vertical PCB Header with Flanges, THT, pitch 2.5mm, 6p; Manufacturer: Wurth Elektronik; Modularity: No; Rated Current: 4A; Working Voltage: 160V; ComponentLink1Description: Website Link; ComponentLink1URL: https://www.we-online.com/redexpert/article/691382030006?ad; ComponentLink2Description: Datasheet Link; ComponentLink2URL: https://www.we-online.com/redexpert/spec/691382030006?ad; Manufacturer Part Number: 691382030006; Category: Terminal Blocks; Match Code: WR-TBL; Mount: Through Hole; Operating Temperature Max: 105°C; Operating Temperature Min: -40°C; Packaging: Box; Application: Pluggable; Number of Pins: 6; Number of Rows: 1; Orientation: Vertical; Pitch: 2.5mm
footprint 691382030006
pins: 1, 2, 3, 4, 5, 6

## 691382030007
designator P?  (value not drawn)
WR-TBL Series 382 Vertical PCB Header with Flanges, THT, pitch 2.5mm, 7p; Manufacturer: Wurth Elektronik; Modularity: No; Rated Current: 4A; Working Voltage: 160V; ComponentLink1Description: Website Link; ComponentLink1URL: https://www.we-online.com/redexpert/article/691382030007?ad; ComponentLink2Description: Datasheet Link; ComponentLink2URL: https://www.we-online.com/redexpert/spec/691382030007?ad; Manufacturer Part Number: 691382030007; Category: Terminal Blocks; Match Code: WR-TBL; Mount: Through Hole; Operating Temperature Max: 105°C; Operating Temperature Min: -40°C; Packaging: Box; Application: Pluggable; Number of Pins: 7; Number of Rows: 1; Orientation: Vertical; Pitch: 2.5mm
footprint 691382030007
pins: 1, 2, 3, 4, 5, 6, 7

## 691382030008
designator P?  (value not drawn)
WR-TBL Series 382 Vertical PCB Header with Flanges, THT, pitch 2.5mm, 8p; Manufacturer: Wurth Elektronik; Modularity: No; Rated Current: 4A; Working Voltage: 160V; ComponentLink1Description: Website Link; ComponentLink1URL: https://www.we-online.com/redexpert/article/691382030008?ad; ComponentLink2Description: Datasheet Link; ComponentLink2URL: https://www.we-online.com/redexpert/spec/691382030008?ad; Manufacturer Part Number: 691382030008; Category: Terminal Blocks; Match Code: WR-TBL; Mount: Through Hole; Operating Temperature Max: 105°C; Operating Temperature Min: -40°C; Packaging: Box; Application: Pluggable; Number of Pins: 8; Number of Rows: 1; Orientation: Vertical; Pitch: 2.5mm
footprint 691382030008
pins: 1, 2, 3, 4, 5, 6, 7, 8

## 691382030012
designator P?  (value not drawn)
WR-TBL Series 382 Vertical PCB Header with Flanges, THT, pitch 2.5mm, 12p; Manufacturer: Wurth Elektronik; Modularity: No; Rated Current: 4A; Working Voltage: 160V; ComponentLink1Description: Website Link; ComponentLink1URL: https://www.we-online.com/redexpert/article/691382030012?ad; ComponentLink2Description: Datasheet Link; ComponentLink2URL: https://www.we-online.com/redexpert/spec/691382030012?ad; Manufacturer Part Number: 691382030012; Category: Terminal Blocks; Match Code: WR-TBL; Mount: Through Hole; Operating Temperature Max: 105°C; Operating Temperature Min: -40°C; Packaging: Box; Application: Pluggable; Number of Pins: 12; Number of Rows: 1; Orientation: Vertical; Pitch: 2.5mm
footprint 691382030012
pins: 1, 2, 3, 4, 5, 6, 7, 8, 9, 10, 11, 12

## 691382040002
designator P?  (value not drawn)
WR-TBL Series 382 Horizontal PCB Header with Flanges, THT, pitch 2.5mm, 2p; Manufacturer: Wurth Elektronik; Modularity: No; Rated Current: 4A; Working Voltage: 160V; ComponentLink1Description: Website Link; ComponentLink1URL: https://www.we-online.com/redexpert/article/691382040002?ad; ComponentLink2Description: Datasheet Link; ComponentLink2URL: https://www.we-online.com/redexpert/spec/691382040002?ad; Manufacturer Part Number: 691382040002; Category: Terminal Blocks; Match Code: WR-TBL; Mount: Through Hole; Operating Temperature Max: 105°C; Operating Temperature Min: -40°C; Packaging: Box; Application: Pluggable; Number of Pins: 2; Number of Rows: 1; Orientation: Horizontal; Pitch: 2.5mm
footprint 691382040002
pins: 1, 2

## 691382040003
designator P?  (value not drawn)
WR-TBL Series 382 Horizontal PCB Header with Flanges, THT, pitch 2.5mm, 3p; Manufacturer: Wurth Elektronik; Modularity: No; Rated Current: 4A; Working Voltage: 160V; ComponentLink1Description: Website Link; ComponentLink1URL: https://www.we-online.com/redexpert/article/691382040003?ad; ComponentLink2Description: Datasheet Link; ComponentLink2URL: https://www.we-online.com/redexpert/spec/691382040003?ad; Manufacturer Part Number: 691382040003; Category: Terminal Blocks; Match Code: WR-TBL; Mount: Through Hole; Operating Temperature Max: 105°C; Operating Temperature Min: -40°C; Packaging: Box; Application: Pluggable; Number of Pins: 3; Number of Rows: 1; Orientation: Horizontal; Pitch: 2.5mm
footprint 691382040003
pins: 1, 2, 3

## 691382040004
designator P?  (value not drawn)
WR-TBL Series 382 Horizontal PCB Header with Flanges, THT, pitch 2.5mm, 4p; Manufacturer: Wurth Elektronik; Modularity: No; Rated Current: 4A; Working Voltage: 160V; ComponentLink1Description: Website Link; ComponentLink1URL: https://www.we-online.com/redexpert/article/691382040004?ad; ComponentLink2Description: Datasheet Link; ComponentLink2URL: https://www.we-online.com/redexpert/spec/691382040004?ad; Manufacturer Part Number: 691382040004; Category: Terminal Blocks; Match Code: WR-TBL; Mount: Through Hole; Operating Temperature Max: 105°C; Operating Temperature Min: -40°C; Packaging: Box; Application: Pluggable; Number of Pins: 4; Number of Rows: 1; Orientation: Horizontal; Pitch: 2.5mm
footprint 691382040004
pins: 1, 2, 3, 4

## 691382040005
designator P?  (value not drawn)
WR-TBL Series 382 Horizontal PCB Header with Flanges, THT, pitch 2.5mm, 5p; Manufacturer: Wurth Elektronik; Modularity: No; Rated Current: 4A; Working Voltage: 160V; ComponentLink1Description: Website Link; ComponentLink1URL: https://www.we-online.com/redexpert/article/691382040005?ad; ComponentLink2Description: Datasheet Link; ComponentLink2URL: https://www.we-online.com/redexpert/spec/691382040005?ad; Manufacturer Part Number: 691382040005; Category: Terminal Blocks; Match Code: WR-TBL; Mount: Through Hole; Operating Temperature Max: 105°C; Operating Temperature Min: -40°C; Packaging: Box; Application: Pluggable; Number of Pins: 5; Number of Rows: 1; Orientation: Horizontal; Pitch: 2.5mm
footprint 691382040005
pins: 1, 2, 3, 4, 5